# Altium schematic symbol library ADC.SchLib: 7 symbols
Pins are listed as number, name and electrical type; pins without a type are passive.

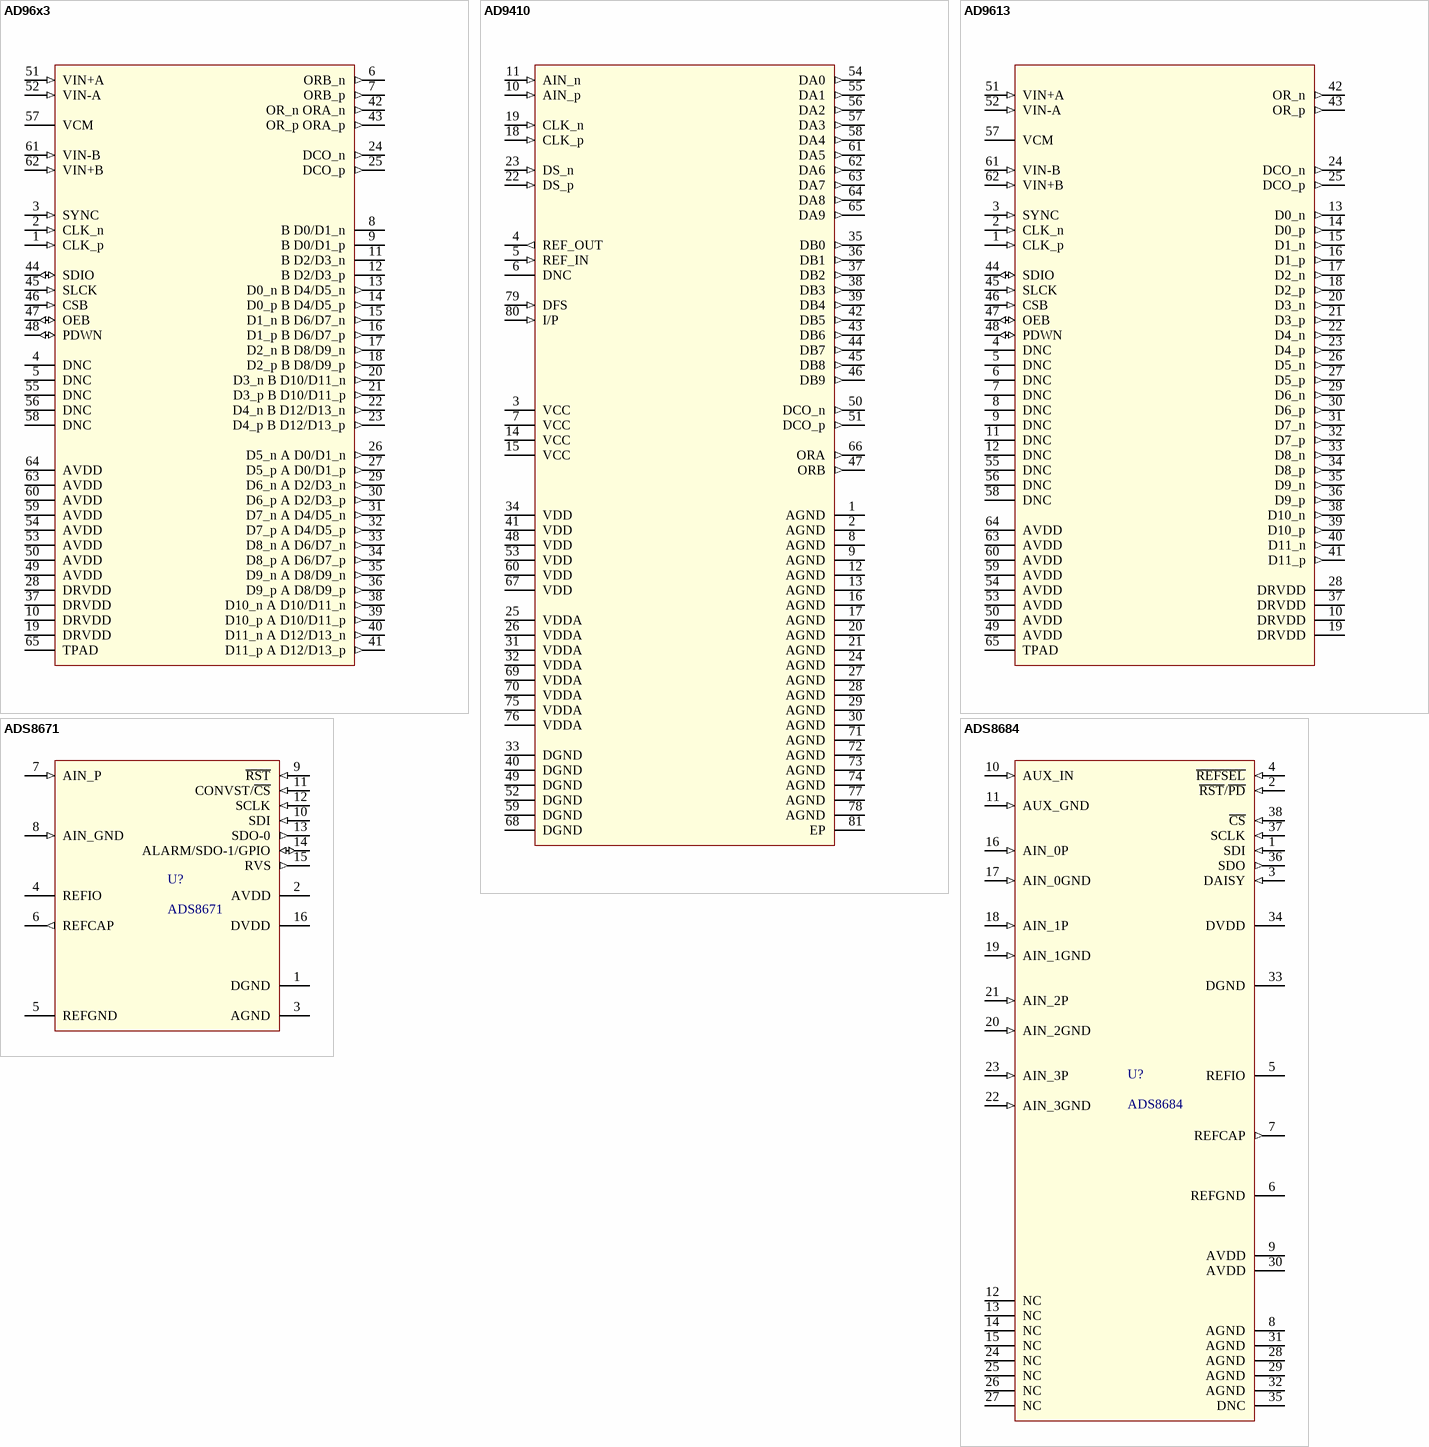
[diagram p0: symbols AD96x3 to ADS8684]

## AD96x3
designator U?
Manufacturer: Analog Devices; PartNumber: AD9613BCPZ, AD9643
footprint 64-lead LFCSP_VQ
pins: 1 CLK_p (in) "ADC clock input, true.", 2 CLK_n (in) "ADC clock input, complement.", 3 SYNC (in) "Digital synchronization pin. Slave mode only.", 4 DNC "Do not connect. Do not connect to these pins.", 5 DNC "Do not connect. Do not connect to these pins.", 6 ORB_n (out) "Do not connect. Do not connect to these pins.", 7 ORB_p (out) "Do not connect. Do not connect to these pins.", 8 B D0/D1_n "Do not connect. Do not connect to these pins.", 9 B D0/D1_p "Do not connect. Do not connect to these pins.", 10 DRVDD (power) "Digital output driver supply (1.8 V nominal).", 11 B D2/D3_n "Do not connect. Do not connect to these pins.", 12 B D2/D3_p "Do not connect. Do not connect to these pins.", 13 D0_n B D4/D5_n (out) "Channel A/ Channel B LVDS output data, complement.", 14 D0_p B D4/D5_p (out) "Channel A/ Channel B LVDS output data, true.", 15 D1_n B D6/D7_n (out) "Channel A/ Channel B LVDS output data, complement.", 16 D1_p B D6/D7_p (out) "Channel A/ Channel B LVDS output data, true.", 17 D2_n B D8/D9_n (out) "Channel A/ Channel B LVDS output data, complement.", 18 D2_p B D8/D9_p (out) "Channel A/ Channel B LVDS output data, true.", 19 DRVDD (power) "Digital output driver supply (1.8 V nominal).", 20 D3_n B D10/D11_n (out) "Channel A/ Channel B LVDS output data, complement.", 21 D3_p B D10/D11_p (out) "Channel A/ Channel B LVDS output data, true.", 22 D4_n B D12/D13_n (out) "Channel A/ Channel B LVDS output data, complement.", 23 D4_p B D12/D13_p (out) "Channel A/ Channel B LVDS output data, true.", 24 DCO_n (out) "Channel A/ channel B LVDS data clock output, complement.", 25 DCO_p (out) "Channel A/ channel B LVDS data clock output, true.", 26 D5_n A D0/D1_n (out) "Channel A/ Channel B LVDS output data, complement.", 27 D5_p A D0/D1_p (out) "Channel A/ Channel B LVDS output data, true.", 28 DRVDD (power) "Digital output driver supply (1.8 V nominal).", 29 D6_n A D2/D3_n (out) "Channel A/ Channel B LVDS output data, complement.", 30 D6_p A D2/D3_p (out) "Channel A/ Channel B LVDS output data, true.", 31 D7_n A D4/D5_n (out) "Channel A/ Channel B LVDS output data, complement.", 32 D7_p A D4/D5_p (out) "Channel A/ Channel B LVDS output data, true.", 33 D8_n A D6/D7_n (out) "Channel A/ Channel B LVDS output data, complement.", 34 D8_p A D6/D7_p (out) "Channel A/ Channel B LVDS output data, true.", 35 D9_n A D8/D9_n (out) "Channel A/ Channel B LVDS output data, complement.", 36 D9_p A D8/D9_p (out) "Channel A/ Channel B LVDS output data, true.", 37 DRVDD (power) "Digital output driver supply (1.8 V nominal).", 38 D10_n A D10/D11_n (out) "Channel A/ Channel B LVDS output data, complement.", 39 D10_p A D10/D11_p (out) "Channel A/ Channel B LVDS output data, true.", 40 D11_n A D12/D13_n (out) "Channel A/ Channel B LVDS output data, complement.", 41 D11_p A D12/D13_p (out) "Channel A/ Channel B LVDS output data, true.", 42 OR_n ORA_n (out) "Channel A/ Channel B LVDS overrange, complement.", 43 OR_p ORA_p (out) "Channel A/ Channel B LVDS overrange, true.", 44 SDIO (io) "SPI serial data I/O.", 45 SLCK (in) "SPI serial clock.", 46 CSB (in) "SPI chip select (active low).", 47 OEB (io) "Output enable bar input (active low).", 48 PDWN (io) "Power-down input (active high). Operation depends upon SPI mode, this input can be configured as power-down or standby.", 49 AVDD (power) "Analog power supply (1.8 V nominal).", 50 AVDD (power) "Analog power supply (1.8 V nominal).", 51 VIN+A (in) "Differential analog input pin (+) for channel A.", 52 VIN-A (in) "Differential analog input pin (-) for channel A.", 53 AVDD (power) "Analog power supply (1.8 V nominal).", 54 AVDD (power) "Analog power supply (1.8 V nominal).", 55 DNC "Do not connect. Do not connect to these pins.", 56 DNC "Do not connect. Do not connect to these pins.", 57 VCM "Common-mode level bias output for analog inputs. This pin should be decoupled to ground using a 0.1 uF capasitor.", 58 DNC "Do not connect. Do not connect to these pins.", 59 AVDD (power) "Analog power supply (1.8 V nominal).", 60 AVDD (power) "Analog power supply (1.8 V nominal).", 61 VIN-B (in) "Differential analog input pin (-) for channel A.", 62 VIN+B (in) "Differential analog input pin (+) for channel A.", 63 AVDD (power) "Analog power supply (1.8 V nominal).", 64 AVDD (power) "Analog power supply (1.8 V nominal).", 65 TPAD (power) "GND"

## AD9410
designator U?
Manufacturer: Analog Devices; PartNumber: AD9410
footprint TQFP80_EP (SV-80-4, AD9410) (TQFP, 80-Leads, Body 14.00x14.00mm, Pitch 0.65mm, Thermal Pad 9.50x9.50mm, IPC Medium Density)
pins: 1 AGND (power) "Analog ground.", 2 AGND (power) "Analog ground.", 3 VCC (power) "5 V Supply. (Regulate to within ±5%.)", 4 REF_OUT (out) "Internal Reference Output.", 5 REF_IN (in) "Internal Reference Input.", 6 DNC "Do not connect. Do not connect to these pins.", 7 VCC (power) "5 V Supply. (Regulate to within ±5%.)", 8 AGND (power) "Analog ground.", 9 AGND (power) "Analog ground.", 10 AIN_p (in) "Differential analog input pin (+).", 11 AIN_n (in) "Differential analog input pin (+).", 12 AGND (power) "Analog ground.", 13 AGND (power) "Analog ground.", 14 VCC (power) "5 V Supply. (Regulate to within ±5%.)", 15 VCC (power) "5 V Supply. (Regulate to within ±5%.)", 16 AGND (power) "Analog ground.", 17 AGND (power) "Analog ground.", 18 CLK_p (in) "ADC clock input, true.", 19 CLK_n (in) "ADC clock input, complement.", 20 AGND (power) "Analog ground.", 21 AGND (power) "Analog ground.", 22 DS_p (in) "Data Sync (Input)—True. Tie low if not used.", 23 DS_n (in) "Data Sync (Input)—Complement. Float and decouple with 0.1 μF capacitor if not used.", 24 AGND (power) "Analog ground.", 25 VDDA (power) "3.3 V Analog Supply. (Regulate to within ±5%.)", 26 VDDA (power) "3.3 V Analog Supply. (Regulate to within ±5%.)", 27 AGND (power) "Analog ground.", 28 AGND (power) "Analog ground.", 29 AGND (power) "Analog ground.", 30 AGND (power) "Analog ground.", 31 VDDA (power) "3.3 V Analog Supply. (Regulate to within ±5%.)", 32 VDDA (power) "3.3 V Analog Supply. (Regulate to within ±5%.)", 33 DGND (power) "Digital ground.", 34 VDD (power) "3.3 V Digital Output Supply. (2.5 V to 3.6 V)", 35 DB0 (out) "Digital Data Output for Channel B.", 36 DB1 (out) "Digital Data Output for Channel B.", 37 DB2 (out) "Digital Data Output for Channel B.", 38 DB3 (out) "Digital Data Output for Channel B.", 39 DB4 (out) "Digital Data Output for Channel B.", 40 DGND (power) "Digital ground.", 41 VDD (power) "3.3 V Digital Output Supply. (2.5 V to 3.6 V)", 42 DB5 (out) "Digital Data Output for Channel B.", 43 DB6 (out) "Digital Data Output for Channel B.", 44 DB7 (out) "Digital Data Output for Channel B.", 45 DB8 (out) "Digital Data Output for Channel B.", 46 DB9 (out) "Digital Data Output for Channel B.", 47 ORB (out) "Data Overrange for Channel B.", 48 VDD (power) "3.3 V Digital Output Supply. (2.5 V to 3.6 V)", 49 DGND (power) "Digital ground.", 50 DCO_n (out) "Clock Output—Complement.", 51 DCO_p (out) "Clock Output—True.", 52 DGND (power) "Digital ground.", 53 VDD (power) "3.3 V Digital Output Supply. (2.5 V to 3.6 V)", 54 DA0 (out) "Digital Data Output for Channel A.", 55 DA1 (out) "Digital Data Output for Channel A.", 56 DA2 (out) "Digital Data Output for Channel A.", 57 DA3 (out) "Digital Data Output for Channel A.", 58 DA4 (out) "Digital Data Output for Channel A.", 59 DGND (power) "Digital ground.", 60 VDD (power) "3.3 V Digital Output Supply. (2.5 V to 3.6 V)", 61 DA5 (out) "Digital Data Output for Channel A.", 62 DA6 (out) "Digital Data Output for Channel A.", 63 DA7 (out) "Digital Data Output for Channel A.", 64 DA8 (out) "Digital Data Output for Channel A.", 65 DA9 (out) "Digital Data Output for Channel A.", 66 ORA (out) "Data Overrange for Channel A.", 67 VDD (power) "3.3 V Digital Output Supply. (2.5 V to 3.6 V)", 68 DGND (power) "Digital ground.", 69 VDDA (power) "3.3 V Analog Supply. (Regulate to within ±5%.)", 70 VDDA (power) "3.3 V Analog Supply. (Regulate to within ±5%.)", 71 AGND (power) "Analog ground.", 72 AGND (power) "Analog ground.", 73 AGND (power) "Analog ground.", 74 AGND (power) "Analog ground.", 75 VDDA (power) "3.3 V Analog Supply. (Regulate to within ±5%.)", 76 VDDA (power) "3.3 V Analog Supply. (Regulate to within ±5%.)", 77 AGND (power) "Analog ground.", 78 AGND (power) "Analog ground.", 79 DFS (in) "Data Format Select. High = twos complement, and low = binary.", 80 I/P (in) "Interleaved or Parallel Output Mode. Low = parallel mode, and high = interleaved mode. If tying high, use a current limiting series resistor (2.5 kΩ) to the 5 V supply.", 81 EP (power) "Analog ground."

## AD9613
designator U?
Manufacturer: Analog Devices; PartNumber: AD9613BCPZ
footprint 64-lead LFCSP_VQ
pins: 1 CLK_p (in) "ADC clock input, true.", 2 CLK_n (in) "ADC clock input, complement.", 3 SYNC (in) "Digital synchronization pin. Slave mode only.", 4 DNC "Do not connect. Do not connect to these pins.", 5 DNC "Do not connect. Do not connect to these pins.", 6 DNC "Do not connect. Do not connect to these pins.", 7 DNC "Do not connect. Do not connect to these pins.", 8 DNC "Do not connect. Do not connect to these pins.", 9 DNC "Do not connect. Do not connect to these pins.", 10 DRVDD (power) "Digital output driver supply (1.8 V nominal).", 11 DNC "Do not connect. Do not connect to these pins.", 12 DNC "Do not connect. Do not connect to these pins.", 13 D0_n (out) "Channel A/ Channel B LVDS output data, complement.", 14 D0_p (out) "Channel A/ Channel B LVDS output data, true.", 15 D1_n (out) "Channel A/ Channel B LVDS output data, complement.", 16 D1_p (out) "Channel A/ Channel B LVDS output data, true.", 17 D2_n (out) "Channel A/ Channel B LVDS output data, complement.", 18 D2_p (out) "Channel A/ Channel B LVDS output data, true.", 19 DRVDD (power) "Digital output driver supply (1.8 V nominal).", 20 D3_n (out) "Channel A/ Channel B LVDS output data, complement.", 21 D3_p (out) "Channel A/ Channel B LVDS output data, true.", 22 D4_n (out) "Channel A/ Channel B LVDS output data, complement.", 23 D4_p (out) "Channel A/ Channel B LVDS output data, true.", 24 DCO_n (out) "Channel A/ channel B LVDS data clock output, complement.", 25 DCO_p (out) "Channel A/ channel B LVDS data clock output, true.", 26 D5_n (out) "Channel A/ Channel B LVDS output data, complement.", 27 D5_p (out) "Channel A/ Channel B LVDS output data, true.", 28 DRVDD (power) "Digital output driver supply (1.8 V nominal).", 29 D6_n (out) "Channel A/ Channel B LVDS output data, complement.", 30 D6_p (out) "Channel A/ Channel B LVDS output data, true.", 31 D7_n (out) "Channel A/ Channel B LVDS output data, complement.", 32 D7_p (out) "Channel A/ Channel B LVDS output data, true.", 33 D8_n (out) "Channel A/ Channel B LVDS output data, complement.", 34 D8_p (out) "Channel A/ Channel B LVDS output data, true.", 35 D9_n (out) "Channel A/ Channel B LVDS output data, complement.", 36 D9_p (out) "Channel A/ Channel B LVDS output data, true.", 37 DRVDD (power) "Digital output driver supply (1.8 V nominal).", 38 D10_n (out) "Channel A/ Channel B LVDS output data, complement.", 39 D10_p (out) "Channel A/ Channel B LVDS output data, true.", 40 D11_n (out) "Channel A/ Channel B LVDS output data, complement.", 41 D11_p (out) "Channel A/ Channel B LVDS output data, true.", 42 OR_n (out) "Channel A/ Channel B LVDS overrange, complement.", 43 OR_p (out) "Channel A/ Channel B LVDS overrange, true.", 44 SDIO (io) "SPI serial data I/O.", 45 SLCK (in) "SPI serial clock.", 46 CSB (in) "SPI chip select (active low).", 47 OEB (io) "Output enable bar input (active low).", 48 PDWN (io) "Power-down input (active high). Operation depends upon SPI mode, this input can be configured as power-down or standby.", 49 AVDD (power) "Analog power supply (1.8 V nominal).", 50 AVDD (power) "Analog power supply (1.8 V nominal).", 51 VIN+A (in) "Differential analog input pin (+) for channel A.", 52 VIN-A (in) "Differential analog input pin (-) for channel A.", 53 AVDD (power) "Analog power supply (1.8 V nominal).", 54 AVDD (power) "Analog power supply (1.8 V nominal).", 55 DNC "Do not connect. Do not connect to these pins.", 56 DNC "Do not connect. Do not connect to these pins.", 57 VCM "Common-mode level bias output for analog inputs. This pin should be decoupled to ground using a 0.1 uF capasitor.", 58 DNC "Do not connect. Do not connect to these pins.", 59 AVDD (power) "Analog power supply (1.8 V nominal).", 60 AVDD (power) "Analog power supply (1.8 V nominal).", 61 VIN-B (in) "Differential analog input pin (-) for channel A.", 62 VIN+B (in) "Differential analog input pin (+) for channel A.", 63 AVDD (power) "Analog power supply (1.8 V nominal).", 64 AVDD (power) "Analog power supply (1.8 V nominal).", 65 TPAD (power) "GND"

## ADS8671
designator U?
Manufacture: Texas Instruments; Part number: ADS8671IPW
footprint TSSOP16
pins: 1 DGND (power) "Analog ground pin.", 2 AVDD (power) "Analog supply pin.", 3 AGND (power) "Analog ground pin.", 4 REFIO (power) "Internal reference output and external reference input pin.", 5 REFGND (power) "Reference ground pin.", 6 REFCAP (out) "ADC reference buffer decoupling capacitor pin.", 7 AIN_P (in) "Analog input positive pin.", 8 AIN_GND (in) "Analog input negative pin.", 9 ~{RST} (in) "Active low logic input pin to reset the device.", 10 SDI (in) "Data input pin for the serial interface or chain data input pin during communication in daisy-chain mode.", 11 CONVST/~{CS} (in) "Convertion start input pin or chip-select input pin.", 12 SCLK (in) "Serial communication clock input pin.", 13 SDO-0 (out) "Serial communication data output 0 pin.", 14 ALARM/SDO-1/GPIO (io) "Active high alarm, data output 1 or general-purpose pin.", 15 RVS (out) "With #CS held highRVS reflects the status of the internal ADCST signal or with #CS low the status of RVS depends on the output protocol selection.", 16 DVDD (power) "Digital supply pin."

## ADS8684
designator U?
Manufacture: Texas Instruments; Part number: ADS8684IDBT, ADS8684IDBTR
footprint TSSOP38 (DBT0038A)
pins: 1 SDI (in) "Data input pin for the serial interface or chain data input pin during communication in daisy-chain mode.", 2 ~{RST}/~{PD} (in) "Active low logic input pin to reset the device.", 3 DAISY (in) "Chain the data input during serial communication in daisy-chain mode.", 4 ~{REFSEL} (in) "Active low logic input to enable the internal reference. REFIO becomes an output that includes the VREF voltage. When HIGH REFIO becomes an input to apply the external VREF voltage.", 5 REFIO (power) "Internal reference output and external reference input pin. Decouple with REFGND on pin 6.", 6 REFGND (power) "Reference GND pin; short to the analog GND plane. Decouple with REFIO on pin 5 and REFCAP on pin 7.", 7 REFCAP (out) "ADC reference decoupling capacitor pin. Decouple with REFGND on pin 6.", 8 AGND (power) "Analog ground pin.", 9 AVDD (power) "Analog supply pin. Decouple with AGND on pin 8.", 10 AUX_IN (in) "Auxiliary input channel: positive input. Decouple with AUX_GND on pin 11.", 11 AUX_GND (in) "Auxiliary input channel: negative input. Decouple with AUX_IN on pin 10.", 12 NC, 13 NC, 14 NC, 15 NC, 16 AIN_0P (in) "Analog input channel 0: positive input. Decouple with AIN_xGND", 17 AIN_0GND (in) "Analog input channel 0: positive input. Decouple with AIN_xGND", 18 AIN_1P (in) "Analog input channel 0: positive input. Decouple with AIN_xGND", 19 AIN_1GND (in) "Analog input channel 0: positive input. Decouple with AIN_xGND", 20 AIN_2GND (in) "Analog input channel 0: positive input. Decouple with AIN_xGND", 21 AIN_2P (in) "Analog input channel 0: positive input. Decouple with AIN_xGND", 22 AIN_3GND (in) "Analog input channel 0: positive input. Decouple with AIN_xGND", 23 AIN_3P (in) "Analog input channel 0: positive input. Decouple with AIN_xGND", 24 NC, 25 NC, 26 NC, 27 NC, 28 AGND (power) "Analog ground pin.", 29 AGND (power) "Analog ground pin.", 30 AVDD (power) "Analog supply pin. Decouple with AGND on pin 31.", 31 AGND (power) "Analog supply pin. Decouple with AGND on pin 30.", 32 AGND (power) "Analog ground pin.", 33 DGND (power) "Digital ground pin. Decouple with DVDD on pin 34.", 34 DVDD (power) "Digital ground pin. Decouple with DVDD on pin 33.", 35 DNC "Do not connect this pin to any node; must remain floating.", 36 SDO (out) "Data output for serial communication.", 37 SCLK (in) "Clock input for serial communication.", 38 ~{CS} (in) "Active low logic input; chip-select signal."

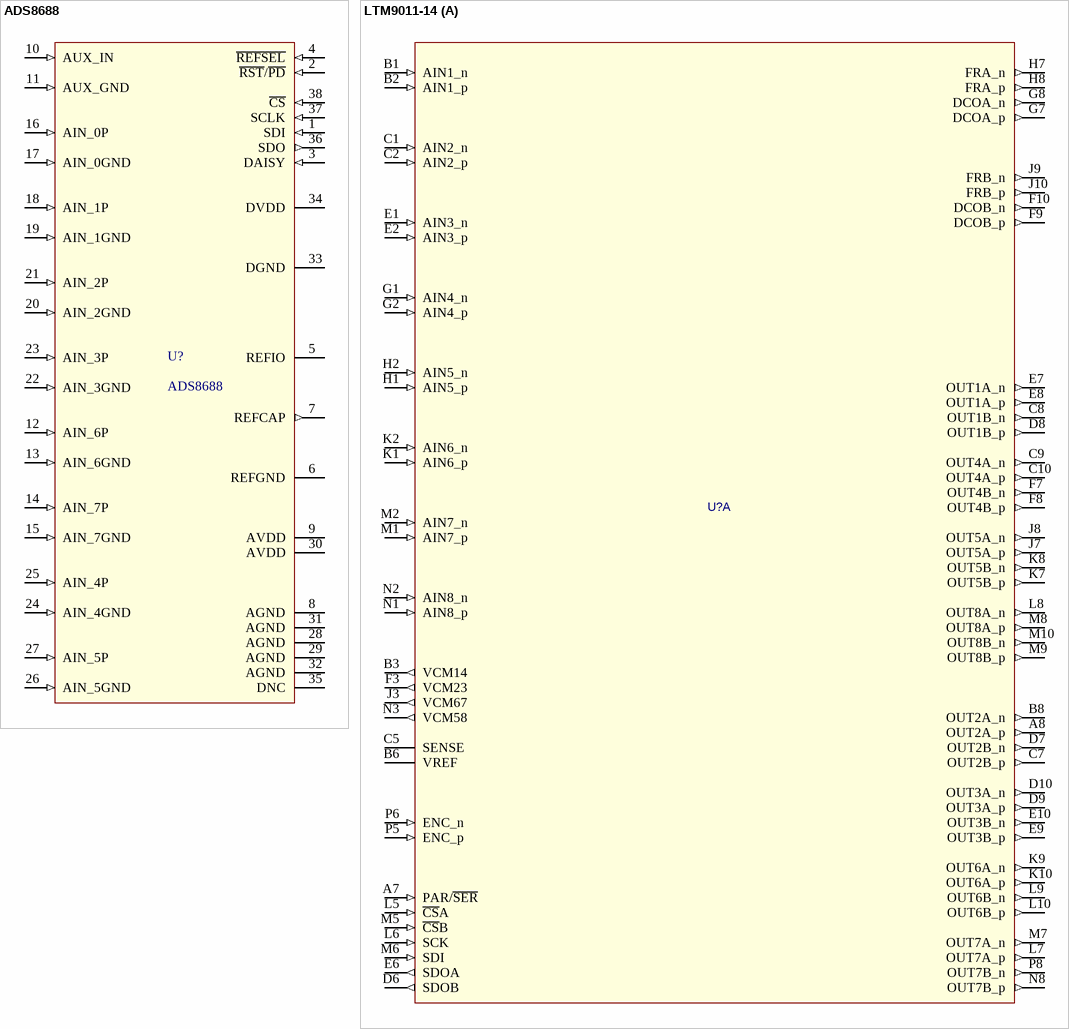
[diagram p1: symbols ADS8688 to LTM9011-14]

## ADS8688
designator U?
Manufacture: Texas Instruments; Part number: ADS8688IDBT, ADS8688IDBTR
footprint TSSOP38 (DBT0038A)
pins: 1 SDI (in) "Data input pin for the serial interface or chain data input pin during communication in daisy-chain mode.", 2 ~{RST}/~{PD} (in) "Active low logic input pin to reset the device.", 3 DAISY (in) "Chain the data input during serial communication in daisy-chain mode.", 4 ~{REFSEL} (in) "Active low logic input to enable the internal reference. REFIO becomes an output that includes the VREF voltage. When HIGH REFIO becomes an input to apply the external VREF voltage.", 5 REFIO (power) "Internal reference output and external reference input pin. Decouple with REFGND on pin 6.", 6 REFGND (power) "Reference GND pin; short to the analog GND plane. Decouple with REFIO on pin 5 and REFCAP on pin 7.", 7 REFCAP (out) "ADC reference decoupling capacitor pin. Decouple with REFGND on pin 6.", 8 AGND (power) "Analog ground pin.", 9 AVDD (power) "Analog supply pin. Decouple with AGND on pin 8.", 10 AUX_IN (in) "Auxiliary input channel: positive input. Decouple with AUX_GND on pin 11.", 11 AUX_GND (in) "Auxiliary input channel: negative input. Decouple with AUX_IN on pin 10.", 12 AIN_6P (in) "Analog input channel x: positive input. Decouple with AIN_xGND", 13 AIN_6GND (in) "Analog input channel x: positive input. Decouple with AIN_xGND", 14 AIN_7P (in) "Analog input channel x: positive input. Decouple with AIN_xGND", 15 AIN_7GND (in) "Analog input channel x: positive input. Decouple with AIN_xGND", 16 AIN_0P (in) "Analog input channel x: positive input. Decouple with AIN_xGND", 17 AIN_0GND (in) "Analog input channel x: positive input. Decouple with AIN_xGND", 18 AIN_1P (in) "Analog input channel x: positive input. Decouple with AIN_xGND", 19 AIN_1GND (in) "Analog input channel x: positive input. Decouple with AIN_xGND", 20 AIN_2GND (in) "Analog input channel x: positive input. Decouple with AIN_xGND", 21 AIN_2P (in) "Analog input channel x: positive input. Decouple with AIN_xGND", 22 AIN_3GND (in) "Analog input channel x: positive input. Decouple with AIN_xGND", 23 AIN_3P (in) "Analog input channel x: positive input. Decouple with AIN_xGND", 24 AIN_4GND (in) "Analog input channel x: positive input. Decouple with AIN_xGND", 25 AIN_4P (in) "Analog input channel x: positive input. Decouple with AIN_xGND", 26 AIN_5GND (in) "Analog input channel x: positive input. Decouple with AIN_xGND", 27 AIN_5P (in) "Analog input channel x: positive input. Decouple with AIN_xGND", 28 AGND (power) "Analog ground pin.", 29 AGND (power) "Analog ground pin.", 30 AVDD (power) "Analog supply pin. Decouple with AGND on pin 31.", 31 AGND (power) "Analog supply pin. Decouple with AGND on pin 30.", 32 AGND (power) "Analog ground pin.", 33 DGND (power) "Digital ground pin. Decouple with DVDD on pin 34.", 34 DVDD (power) "Digital ground pin. Decouple with DVDD on pin 33.", 35 DNC "Do not connect this pin to any node; must remain floating.", 36 SDO (out) "Data output for serial communication.", 37 SCLK (in) "Clock input for serial communication.", 38 ~{CS} (in) "Active low logic input; chip-select signal."

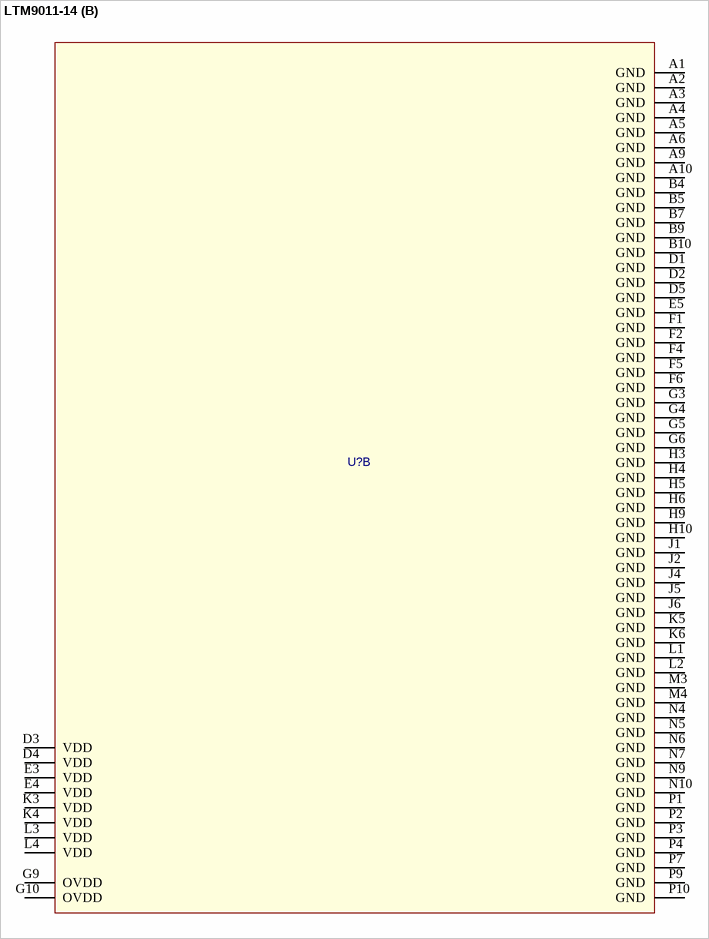
[diagram p2: symbol LTM9011-14]

## LTM9011-14
designator U?  (value not drawn)
he LTM®9011-14/LTM9010-14/LTM9009-14 are 8-channel, simultaneous sampling 14-bit A/D converters designed / for digitizing high frequency, wide dynamic range signals. / AC performance includes 73.1dB SNR and 88dB spurious / free dynamic range (SFDR). Low power consumption per / channel reduces heat in high channel count applications. / Integrated bypass capacitance and flow-through pinout / reduces overall board space requirements.DC specs include ±1LSB INL (typ), ±0.3LSB DNL (typ) / and no missing codes over temperature. The transition / noise is a low 1.2LSBRMS. / The digital outputs are serial LVDS to minimize the number of data lines. Each channel outputs two bits at a time / (2-lane mode). At lower sampling rates there is a one bit / per channel option (1-lane mode). / The ENC+ and ENC– inputs may be driven differentially / or single-ended with a sine wave, PECL, LVDS, TTL, or / CMOS inputs. An internal clock duty cycle stabilizer allows high performance at full speed for a wide range of / clock duty cycles.; Manufacturer: Analog Devices; Part number: LTM9011IY-14
footprint BGA 140-Lead 10x14 (LTM9011-14) (BGA, 140-Leads, Body 9.00x11.25mmx2.87mm, Pitch 0.80mm)
part A pins: A7 PAR/~{SER} (in) "Programming Mode Selection Pin. Connect to ground to enable the serial programming mode. CSA, CSB, SCK, SDI, SDOA and SDOB become a serial interface that control the A/D operating modes. Connect to VDD to enable parallel programming mode where CSA, CSB, SCK, SDI, SDOA and SDOB become parallel logic inputs that control a reduced set of the A/D operating modes. PAR/SER should be connected directly to ground or the VDDof the part and not be driven by a logic signal.", A8 OUT2A_p (out) "Serial Data Outputs for Channel x. In 1-lane output mode only OUT1A–/OUT1A+ are used.", B1 AIN1_n (in) "Channel Negative Differential Analog Input.", B2 AIN1_p (in) "Channel Positive Differential Analog Input.", B3 VCM14 (out) "Common Mode Bias Output, Nominally Equal to VDD/2. VCM should be used to bias the common mode of the analog inputs of channels x and y. VCM is internally  bypassed to ground with a 0.1µF ceramic capacitor. No external capacitance is required.", B6 VREF (power) "Reference Voltage Output. VREF is internally bypassed to ground with a 1μF ceramic capacitor, nominally 1.25V.", B8 OUT2A_n (out) "Serial Data Outputs for Channel x. In 1-lane output mode only OUT1A–/OUT1A+ are used.", C1 AIN2_n (in) "Channel Negative Differential Analog Input.", C2 AIN2_p (in) "Channel Positive Differential Analog Input.", C5 SENSE (power) "Reference Programming Pin. Connecting SENSE to VDD selects the internal reference and a ±1Vinput range. Connecting SENSE to ground selects the internal reference and a ±0.5V input range. An external reference between 0.625V and 1.3V applied to SENSE", C7 OUT2B_p (out) "Serial Data Outputs for Channel x. In 1-lane output mode only OUT1A–/OUT1A+ are used.", C8 OUT1B_n (out) "Serial Data Outputs for Channel x. In 1-lane output mode only OUT1A–/OUT1A+ are used.", C9 OUT4A_n (out) "Serial Data Outputs for Channel x. In 1-lane output mode only OUT1A–/OUT1A+ are used.", C10 OUT4A_p (out) "Serial Data Outputs for Channel x. In 1-lane output mode only OUT1A–/OUT1A+ are used.", D6 SDOB (out) ": Serial Data Output Pin for Channels 2, 3, 6.", D7 OUT2B_n (out) "Serial Data Outputs for Channel x. In 1-lane output mode only OUT1A–/OUT1A+ are used.", D8 OUT1B_p (out) "Serial Data Outputs for Channel x. In 1-lane output mode only OUT1A–/OUT1A+ are used.", D9 OUT3A_p (out) "Serial Data Outputs for Channel x. In 1-lane output mode only OUT1A–/OUT1A+ are used.", D10 OUT3A_n (out) "Serial Data Outputs for Channel x. In 1-lane output mode only OUT1A–/OUT1A+ are used.", E1 AIN3_n (in) "Channel Negative Differential Analog Input.", E2 AIN3_p (in) "Channel Positive Differential Analog Input.", E6 SDOA (out) "In serial programming mode, (PAR/SER = 0V),SDOA is the optional serial interface data output for registers controlling channels 1, 4, 5 and 8. Data on SDO is read back from the mode control registers and can be latched on the falling edge of SCK. SDO is an open-drain N-channel MOSFET output that requires an external 2kpull-up resistor from 1.8V to 3.3V. If read back from the mode control registers is not needed, the pull-up resistor is not necessary and SDO can be left unconnected. In parallel programming mode (PAR/SER = VDD), SDOA is an input that enables internal 100Ω termination resistors on the digital outputs of channels 1, 4, 5 and 8. When used as an input, SDO can be driven with 1.8V to 3.3V logic through a 1k series resistor.", E7 OUT1A_n (out) "Serial Data Outputs for Channel x. In 1-lane output mode only OUT1A–/OUT1A+ are used.", E8 OUT1A_p (out) "Serial Data Outputs for Channel x. In 1-lane output mode only OUT1A–/OUT1A+ are used.", E9 OUT3B_p (out) "Serial Data Outputs for Channel x. In 1-lane output mode only OUT1A–/OUT1A+ are used.", E10 OUT3B_n (out) "Serial Data Outputs for Channel x. In 1-lane output mode only OUT1A–/OUT1A+ are used.", F3 VCM23 (out) "Common Mode Bias Output, Nominally Equal to VDD/2. VCM should be used to bias the common mode of the analog inputs of channels x and y. VCM is internally  bypassed to ground with a 0.1µF ceramic capacitor. No external capacitance is required.", F7 OUT4B_n (out) "Serial Data Outputs for Channel x. In 1-lane output mode only OUT1A–/OUT1A+ are used.", F8 OUT4B_p (out) "Serial Data Outputs for Channel x. In 1-lane output mode only OUT1A–/OUT1A+ are used.", F9 DCOB_p (out) "Data Clock Outputs for Channels 2, 3, 6 and 7", F10 DCOB_n (out) "Data Clock Outputs for Channels 2, 3, 6 and 7", G1 AIN4_n (in) "Channel Negative Differential Analog Input.", G2 AIN4_p (in) "Channel Positive Differential Analog Input.", G7 DCOA_p (out) "Data Clock Outputs for Channels 1, 4, 5 and 8.", G8 DCOA_n (out) "Data Clock Outputs for Channels 1, 4, 5 and 8.", H1 AIN5_p (in) "Channel Positive Differential Analog Input.", H2 AIN5_n (in) "Channel Negative Differential Analog Input.", H7 FRA_n (out) "Frame Start Outputs for Channels 1, 4, 5 and 8.", H8 FRA_p (out) "Frame Start Outputs for Channels 1, 4, 5 and 8.", J3 VCM67 (out) "Common Mode Bias Output, Nominally Equal to VDD/2. VCM should be used to bias the common mode of the analog inputs of channels x and y. VCM is internally  bypassed to ground with a 0.1µF ceramic capacitor. No external capacitance is required.", J7 OUT5A_p (out) "Serial Data Outputs for Channel x. In 1-lane output mode only OUT1A–/OUT1A+ are used.", J8 OUT5A_n (out) "Serial Data Outputs for Channel x. In 1-lane output mode only OUT1A–/OUT1A+ are used.", J9 FRB_n (out) "Frame Start Outputs for Channels 2, 3, 6 and 7.", J10 FRB_p (out) "Frame Start Outputs for Channels 2, 3, 6 and 7.", K1 AIN6_p (in) "Channel Positive Differential Analog Input.", K2 AIN6_n (in) "Channel Negative Differential Analog Input.", K7 OUT5B_p (out) "Serial Data Outputs for Channel x. In 1-lane output mode only OUT1A–/OUT1A+ are used.", K8 OUT5B_n (out) "Serial Data Outputs for Channel x. In 1-lane output mode only OUT1A–/OUT1A+ are used.", K9 OUT6A_n (out) "Serial Data Outputs for Channel x. In 1-lane output mode only OUT1A–/OUT1A+ are used.", K10 OUT6A_p (out) "Serial Data Outputs for Channel x. In 1-lane output mode only OUT1A–/OUT1A+ are used.", L5 ~{CS}A (in) "In serial programming mode, (PAR/SER = 0V), CSA is the serial interface chip select input for registers controlling channels 1, 4, 5 and 8. When CS is low, SCK is enabled for shifting data on SDI into the mode control registers. In parallel programming mode (PAR/SER= VDD), CS selects 2-lane or 1-lane output mode. CS can be driven with 1.8V to 3.3V logic.", L6 SCK (in) "In serial programming mode, (PAR/SER = 0V), SCK is the serial interface clock input. In parallel programming mode (PAR/SER = VDD), SCK selects 3.5mA or 1.75mA LVDS output currents. SCK can be driven with 1.8V to 3.3V logic.", L7 OUT7A_p (out) "Serial Data Outputs for Channel x. In 1-lane output mode only OUT1A–/OUT1A+ are used.", L8 OUT8A_n (out) "Serial Data Outputs for Channel x. In 1-lane output mode only OUT1A–/OUT1A+ are used.", L9 OUT6B_n (out) "Serial Data Outputs for Channel x. In 1-lane output mode only OUT1A–/OUT1A+ are used.", L10 OUT6B_p (out) "Serial Data Outputs for Channel x. In 1-lane output mode only OUT1A–/OUT1A+ are used.", M1 AIN7_p (in) "Channel Positive Differential Analog Input.", M2 AIN7_n (in) "Channel Negative Differential Analog Input.", M5 ~{CS}B (in) "In serial programming mode, (PAR/SER = 0V), CSA is the serial interface chip select input for registers controlling channels 2, 3, 6  and 7. When CS is low, SCK is enabled for shifting data on SDI into the mode control registers. In parallel programming mode (PAR/SER= VDD), CS selects 2-lane or 1-lane output mode. CS can be driven with 1.8V to 3.3V logic.", M6 SDI (in) "In serial programming mode, (PAR/SER = 0V), SDI is the serial interface data Input. Data on SDI is clocked into the mode control registers on the rising edge of SCK. In parallel programming mode (PAR/SER = VDD), SDI can be used to power down the part. SDI can  be driven with 1.8V to 3.3V logic.", M7 OUT7A_n (out) "Serial Data Outputs for Channel x. In 1-lane output mode only OUT1A–/OUT1A+ are used.", M8 OUT8A_p (out) "Serial Data Outputs for Channel x. In 1-lane output mode only OUT1A–/OUT1A+ are used.", M9 OUT8B_p (out) "Serial Data Outputs for Channel x. In 1-lane output mode only OUT1A–/OUT1A+ are used.", M10 OUT8B_n (out) "Serial Data Outputs for Channel x. In 1-lane output mode only OUT1A–/OUT1A+ are used.", N1 AIN8_p (in) "Channel Positive Differential Analog Input.", N2 AIN8_n (in) "Channel Negative Differential Analog Input.", N3 VCM58 (out) "Common Mode Bias Output, Nominally Equal to VDD/2. VCM should be used to bias the common mode of the analog inputs of channels x and y. VCM is internally  bypassed to ground with a 0.1µF ceramic capacitor. No external capacitance is required.", N8 OUT7B_p (out) "Serial Data Outputs for Channel x. In 1-lane output mode only OUT1A–/OUT1A+ are used.", P5 ENC_p (in) "Encode Input. Conversion starts on the rising edge.", P6 ENC_n (in) ": Encode Complement Input. Conversion starts on the falling edge.", P8 OUT7B_n (out) "Serial Data Outputs for Channel x. In 1-lane output mode only OUT1A–/OUT1A+ are used."
part B pins: A1 GND (power) ": ADC Power Ground. Use multiple vias close to pins.", A2 GND (power) ": ADC Power Ground. Use multiple vias close to pins.", A3 GND (power) ": ADC Power Ground. Use multiple vias close to pins.", A4 GND (power) ": ADC Power Ground. Use multiple vias close to pins.", A5 GND (power) ": ADC Power Ground. Use multiple vias close to pins.", A6 GND (power) ": ADC Power Ground. Use multiple vias close to pins.", A9 GND (power) ": ADC Power Ground. Use multiple vias close to pins.", A10 GND (power) ": ADC Power Ground. Use multiple vias close to pins.", B4 GND (power) ": ADC Power Ground. Use multiple vias close to pins.", B5 GND (power) ": ADC Power Ground. Use multiple vias close to pins.", B7 GND (power) ": ADC Power Ground. Use multiple vias close to pins.", B9 GND (power) ": ADC Power Ground. Use multiple vias close to pins.", B10 GND (power) ": ADC Power Ground. Use multiple vias close to pins.", D1 GND (power) ": ADC Power Ground. Use multiple vias close to pins.", D2 GND (power) ": ADC Power Ground. Use multiple vias close to pins.", D3 VDD (power) ": 1.8V Analog Power Supply. VDD is internally bypassed to ground with 0.1μF ceramic capacitors.", D4 VDD (power) ": 1.8V Analog Power Supply. VDD is internally bypassed to ground with 0.1μF ceramic capacitors.", D5 GND (power) ": ADC Power Ground. Use multiple vias close to pins.", E3 VDD (power) ": 1.8V Analog Power Supply. VDD is internally bypassed to ground with 0.1μF ceramic capacitors.", E4 VDD (power) ": 1.8V Analog Power Supply. VDD is internally bypassed to ground with 0.1μF ceramic capacitors.", E5 GND (power) ": ADC Power Ground. Use multiple vias close to pins.", F1 GND (power) ": ADC Power Ground. Use multiple vias close to pins.", F2 GND (power) ": ADC Power Ground. Use multiple vias close to pins.", F4 GND (power) ": ADC Power Ground. Use multiple vias close to pins.", F5 GND (power) ": ADC Power Ground. Use multiple vias close to pins.", F6 GND (power) ": ADC Power Ground. Use multiple vias close to pins.", G3 GND (power) ": ADC Power Ground. Use multiple vias close to pins.", G4 GND (power) ": ADC Power Ground. Use multiple vias close to pins.", G5 GND (power) ": ADC Power Ground. Use multiple vias close to pins.", G6 GND (power) ": ADC Power Ground. Use multiple vias close to pins.", G9 OVDD (power) "Output Driver Supply. OVDD is internally bypassed to ground with a 0.1µF ceramic capacitor.", G10 OVDD (power) "Output Driver Supply. OVDD is internally bypassed to ground with a 0.1µF ceramic capacitor.", H3 GND (power) ": ADC Power Ground. Use multiple vias close to pins.", H4 GND (power) ": ADC Power Ground. Use multiple vias close to pins.", H5 GND (power) ": ADC Power Ground. Use multiple vias close to pins.", H6 GND (power) ": ADC Power Ground. Use multiple vias close to pins.", H9 GND (power) ": ADC Power Ground. Use multiple vias close to pins.", H10 GND (power) ": ADC Power Ground. Use multiple vias close to pins.", J1 GND (power) ": ADC Power Ground. Use multiple vias close to pins.", J2 GND (power) ": ADC Power Ground. Use multiple vias close to pins.", J4 GND (power) ": ADC Power Ground. Use multiple vias close to pins.", J5 GND (power) ": ADC Power Ground. Use multiple vias close to pins.", J6 GND (power) ": ADC Power Ground. Use multiple vias close to pins.", K3 VDD (power) ": 1.8V Analog Power Supply. VDD is internally bypassed to ground with 0.1μF ceramic capacitors.", K4 VDD (power) ": 1.8V Analog Power Supply. VDD is internally bypassed to ground with 0.1μF ceramic capacitors.", K5 GND (power) ": ADC Power Ground. Use multiple vias close to pins.", K6 GND (power) ": ADC Power Ground. Use multiple vias close to pins.", L1 GND (power) ": ADC Power Ground. Use multiple vias close to pins.", L2 GND (power) ": ADC Power Ground. Use multiple vias close to pins.", L3 VDD (power) ": 1.8V Analog Power Supply. VDD is internally bypassed to ground with 0.1μF ceramic capacitors.", L4 VDD (power) ": 1.8V Analog Power Supply. VDD is internally bypassed to ground with 0.1μF ceramic capacitors.", M3 GND (power) ": ADC Power Ground. Use multiple vias close to pins.", M4 GND (power) ": ADC Power Ground. Use multiple vias close to pins.", N4 GND (power) ": ADC Power Ground. Use multiple vias close to pins.", N5 GND (power) ": ADC Power Ground. Use multiple vias close to pins.", N6 GND (power) ": ADC Power Ground. Use multiple vias close to pins.", N7 GND (power) ": ADC Power Ground. Use multiple vias close to pins.", N9 GND (power) ": ADC Power Ground. Use multiple vias close to pins.", N10 GND (power) ": ADC Power Ground. Use multiple vias close to pins.", P1 GND (power) ": ADC Power Ground. Use multiple vias close to pins.", P2 GND (power) ": ADC Power Ground. Use multiple vias close to pins.", P3 GND (power) ": ADC Power Ground. Use multiple vias close to pins.", P4 GND (power) ": ADC Power Ground. Use multiple vias close to pins.", P7 GND (power) ": ADC Power Ground. Use multiple vias close to pins.", P9 GND (power) ": ADC Power Ground. Use multiple vias close to pins.", P10 GND (power) ": ADC Power Ground. Use multiple vias close to pins."